# Altium footprint library PMIC.PcbLib: 19 footprints (part 1 of 2)
Each footprint in its own frame and in the unit in brackets; x right, y up, seen from the top. Pads: shape width x height; smd on the part's side, far side on the other; paste and mask are expansions set on the pad; w line width, h text height; cw(c..) or ccw(c..) is an arc to the next point about the centre after c.
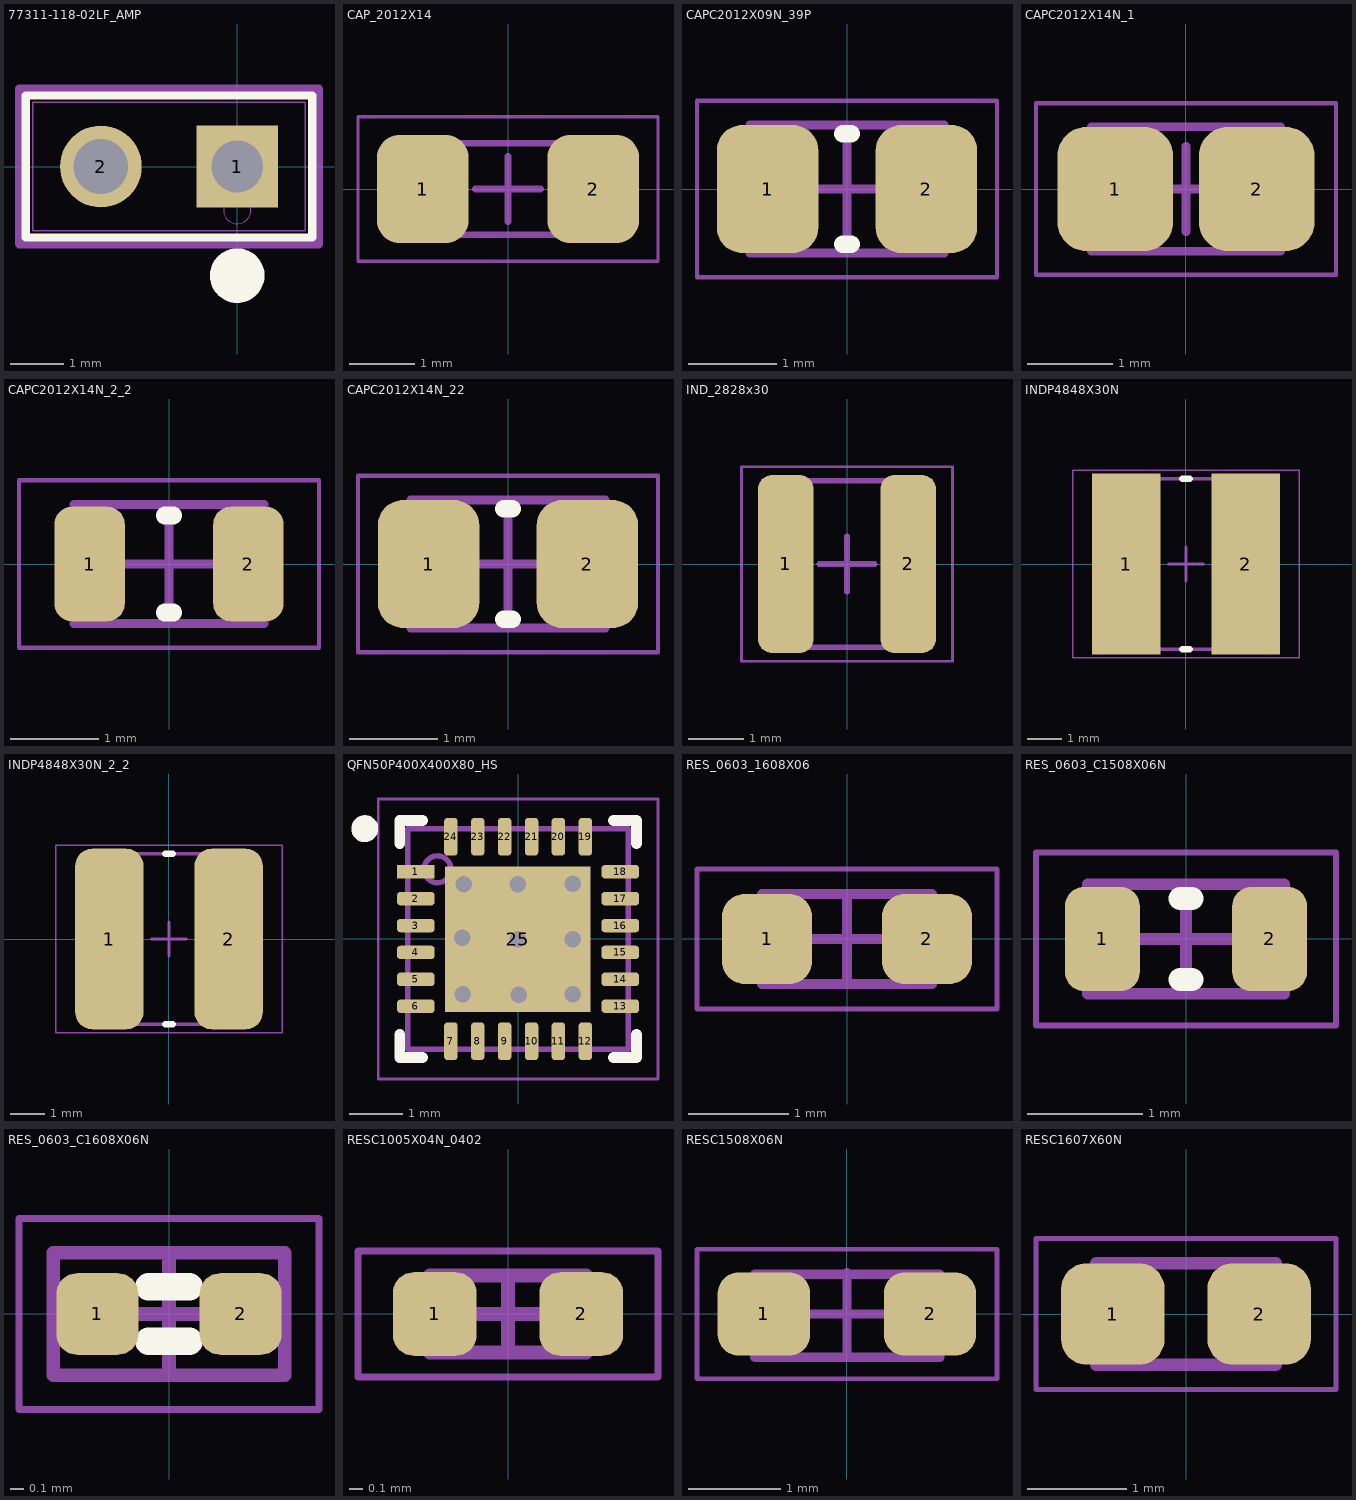
[diagram p0: the footprints below, top view; thin cyan lines are the x and y axes]

## 77311-118-02LF_AMP [mil]
pads (2):
  rect 60x60 hole 38 mask+0: 1(0,0)
  round 60 hole 40 mask+0: 2(-100,0)
Top Overlay:
  circle w20: c0,-80 r10
  lines w6: -155,-52 -155,52 55,52 55,-52 -155,-52
Mechanical 13:
  circle w0: c0,-32 r10
  lines w1: -150,-47 -150,47 50,47 50,-47 -150,-47
  text ".Designator" at -107.13,-31.03 h60
Mechanical 15:
  lines w6: -160,-57 60,-57 60,57 -160,57 -160,-57
3D body: height 10, standoff 0, extent 0,0 10,10
3D body "77311-118-02LF_AMP.step": height 350, standoff -200, extent -149.99,-49.99 50.01,50.01

## CAP_2012X14 [mm] "Chip Capacitor, 2-Leads, Body 2.00x1.25mm, IPC Medium Density"
height 1.4
pads (2):
  rrect50% 1.4x1.65 smd: 1(-1.3,0) 2(1.3,0)
Mechanical 13:
  lines w0.1: -1.075,-0.7 1.075,-0.7 1.075,0.7 -1.075,0.7 -1.075,-0.7
Mechanical 15:
  lines w0.05: -2.286,-1.1 2.286,-1.1 2.286,1.1 -2.286,1.1 -2.286,-1.1
  lines w0.1: -0.5,0 0.5,0 ; 0,-0.5 0,0.5
3D body: height 1.4, standoff 0, extent 0.625,-0.7 1.075,0.7
3D body: height 1.4, standoff 0, extent -1.075,-0.7 -0.625,0.7
3D body: height 1.4, standoff 0, extent -0.625,-0.7 0.625,0.7

## CAPC2012X09N_39P [mm] "39pF, Chip Capacitor, 2-Leads, Body 2.00x1.25mm, IPC Medium Density"
height 0.88
pads (2):
  rrect50% 1.15x1.45 smd: 1(-0.9,0) 2(0.9,0)
Top Overlay:
  lines w0.2: -0.05,-0.625 0.05,-0.625 ; -0.05,0.625 0.05,0.625
Mechanical 13:
  lines w0.1: -1.1,-0.725 -1.1,0.725 1.1,0.725 1.1,-0.725 -1.1,-0.725
  text ".Designator" at -0.8,-0.542 h0.4
Mechanical 15:
  lines w0.05: -1.7,-1 -1.7,1 1.7,1 1.7,-1 -1.7,-1
  lines w0.1: -0.5,0 0.5,0 ; 0,-0.5 0,0.5
3D body "C0805C390K3HACTU.step": height 0.88, standoff 0, extent -1.125,-0.725 1.075,0.725

## CAPC2012X14N_1 [mm] "Chip Capacitor, 2-Leads, Body 2.01x1.25mm, IPC Medium Density"
height 1.4
pads (2):
  rrect50% 1.35x1.45 smd mask+0.08: 1(-0.825,0) 2(0.825,0)
Mechanical 13:
  lines w0.1: -1.105,-0.725 -1.105,0.725 1.105,0.725 1.105,-0.725 -1.105,-0.725
  text ".Designator" at -0.814,-0.478 h0.4
Mechanical 15:
  lines w0.05: -1.75,-1 -1.75,1 1.75,1 1.75,-1 -1.75,-1
  lines w0.1: -0.5,0 0.5,0 ; 0,-0.5 0,0.5
3D body: height 1.4, standoff 0, extent -0.605,-0.725 0.605,0.725
3D body: height 1.4, standoff 0, extent -1.105,-0.725 -0.605,0.725
3D body: height 1.4, standoff 0, extent 0.605,-0.725 1.105,0.725

## CAPC2012X14N_2_2 [mm] "2.2uF, Chip Capacitor, 2-Leads, Body 2.00x1.25mm, IPC Medium Density"
height 1.35
pads (2):
  rrect50% 0.8x1.3 smd: 1(-0.9,0) 2(0.9,0)
Top Overlay:
  lines w0.2: -0.05,-0.55 0.05,-0.55 ; -0.05,0.55 0.05,0.55
Mechanical 13:
  lines w0.1: -1.075,-0.675 1.075,-0.675 1.075,0.675 -1.075,0.675 -1.075,-0.675
  text ".Designator" at -0.8,-0.517 h0.4
Mechanical 15:
  lines w0.05: -1.7,-0.95 1.7,-0.95 1.7,0.95 -1.7,0.95 -1.7,-0.95
  lines w0.1: -0.5,0 0.5,0 ; 0,-0.5 0,0.5
3D body: height 1.35, standoff 0, extent 0.575,-0.675 1.075,0.675
3D body: height 1.35, standoff 0, extent -1.075,-0.675 -0.575,0.675
3D body: height 1.35, standoff 0, extent -0.575,-0.675 0.575,0.675

## CAPC2012X14N_22 [mm] "22uF, Chip Capacitor, 2-Leads, Body 2.00x1.25mm, IPC Medium Density"
height 1.4
pads (2):
  rrect50% 1.15x1.45 smd: 1(-0.9,0) 2(0.9,0)
Top Overlay:
  lines w0.2: -0.05,-0.625 0.05,-0.625 ; -0.05,0.625 0.05,0.625
Mechanical 13:
  lines w0.1: -1.1,-0.725 -1.1,0.725 1.1,0.725 1.1,-0.725 -1.1,-0.725
  text ".Designator" at -1,-0.492 h0.4
Mechanical 15:
  lines w0.05: -1.7,-1 -1.7,1 1.7,1 1.7,-1 -1.7,-1
  lines w0.1: -0.5,0 0.5,0 ; 0,-0.5 0,0.5
3D body "C0805C226K7PACTU.step": height 1.4, standoff 0, extent -1.1,-0.7 1.1,0.75

## IND_2828x30 [mm] "Precision Wire Wound Inductor, 2-Leads, Body 2.80x2.80mm, IPC Medium Density"
height 3
pads (2):
  rrect50% 1x3.2 smd: 1(-1.1,0) 2(1.1,0)
Mechanical 13:
  lines w0.1: -1.5,-1.5 -1.5,1.5 1.5,1.5 1.5,-1.5 -1.5,-1.5
  text ".Designator" at -1.195,-0.845 h0.9
Mechanical 15:
  lines w0.05: -1.9,-1.75 -1.9,1.75 1.9,1.75 1.9,-1.75 -1.9,-1.75
  lines w0.1: -0.5,0 0.5,0 ; 0,-0.5 0,0.5
3D body "744025001_Download_STP_WE-TPC-2828_rev1.stp": height 2.8, standoff 0, extent -1.4,-1.4 1.4,1.4

## INDP4848X30N [mm] "Precision Wire Wound Inductor, 2-Leads, Body 4.80x4.80mm, IPC Medium Density"
height 3
pads (2):
  rect 2x5.3 smd: 1(-1.75,0) 2(1.75,0)
Top Overlay:
  lines w0.2: -0.1,-2.5 0.1,-2.5 ; -0.1,2.5 0.1,2.5
Mechanical 13:
  lines w0.1: -2.5,-2.5 -2.5,2.5 2.5,2.5 2.5,-2.5 -2.5,-2.5
Mechanical 15:
  lines w0.05: -3.325,-2.75 -3.325,2.75 3.325,2.75 3.325,-2.75 -3.325,-2.75
  lines w0.1: -0.5,0 0.5,0 ; 0,-0.5 0,0.5
3D body "744043003_Download_STP_WE-TPC-4828_rev1 (1).stp": height 2.4, standoff -0.4, extent -2.4,-2.4 2.4,2.4

## INDP4848X30N_2_2 [mm] "2.2uH, Precision Wire Wound Inductor, 2-Leads, Body 4.80x4.80mm, IPC Medium Density"
height 3
pads (2):
  rrect50% 2x5.3 smd: 1(-1.75,0) 2(1.75,0)
Top Overlay:
  lines w0.2: -0.1,-2.5 0.1,-2.5 ; -0.1,2.5 0.1,2.5
Mechanical 13:
  lines w0.1: -2.5,-2.5 -2.5,2.5 2.5,2.5 2.5,-2.5 -2.5,-2.5
  text ".Designator" at -1.921,-1.963 h1.52
Mechanical 15:
  lines w0.05: -3.325,-2.75 -3.325,2.75 3.325,2.75 3.325,-2.75 -3.325,-2.75
  lines w0.1: -0.5,0 0.5,0 ; 0,-0.5 0,0.5
3D body: height 3, standoff 0, extent -2.5,-2.5 2.5,2.5

## QFN50P400X400X80_HS [mm] "QFN, 24-Leads, Body 4.00x4.00mm, Pitch 0.50mm, Thermal Pad 2.70x2.70mm, IPC Medium Density"
height 0.8
pads (25):
  rect 0.7x0.25 smd mask+0.04: 1(-1.9,1.25)
  rrect50% 0.7x0.25 smd mask+0.04: 2(-1.9,0.75) 3(-1.9,0.25) 4(-1.9,-0.25) 5(-1.9,-0.75) 6(-1.9,-1.25) 13(1.9,-1.25) 14(1.9,-0.75) 15(1.9,-0.25) 16(1.9,0.25) 17(1.9,0.75) 18(1.9,1.25)
  rrect50% 0.25x0.7 smd mask+0.04: 7(-1.25,-1.9) 8(-0.75,-1.9) 9(-0.25,-1.9) 10(0.25,-1.9) 11(0.75,-1.9) 12(1.25,-1.9) 19(1.25,1.9) 20(0.75,1.9) 21(0.25,1.9) 22(-0.25,1.9) 23(-0.75,1.9) 24(-1.25,1.9)
  rect 2.7x2.7 smd paste-2 mask+0.04: 25(-0.004,-0.004)
via 1.013,1.029 diameter 0.559 hole 0.305
via -0.005,1.018 diameter 0.559 hole 0.305
via -1.009,1.014 diameter 0.559 hole 0.305
via -1.038,0.026 diameter 0.559 hole 0.305
via 1.017,-0.004 diameter 0.559 hole 0.305
via 1.017,-1.028 diameter 0.559 hole 0.305
via 0.014,-1.034 diameter 0.559 hole 0.305
via -1.028,-1.03 diameter 0.559 hole 0.305
via -0.004,-0.004 diameter 0.559 hole 0.305
Top Overlay:
  circle w0.25: c-2.85,2.05 r0.125
  lines w0.2: -2.2,-1.775 -2.2,-2.2 -1.775,-2.2 ; -2.2,1.775 -2.2,2.2 -1.775,2.2 ; 1.775,-2.2 2.2,-2.2 2.2,-1.775 ; 1.775,2.2 2.2,2.2 2.2,1.775
Top Paste:
  rectangle: 0.135,0.05 0.875,0.939
  rectangle: -0.9,0.084 -0.125,0.912
  rectangle: 0.146,-0.975 0.875,-0.043
  rectangle: -0.899,-0.95 -0.148,-0.05
Mechanical 13:
  circle w0.1: c-1.499,1.295 r0.25
  lines w0.1: -2.05,-2.05 2.05,-2.05 2.05,2.05 -2.05,2.05 -2.05,-2.05
  text ".Designator" at -1.676,-1.75 h1
Mechanical 15:
  lines w0.05: -2.6,-2.6 2.6,-2.6 2.6,2.6 -2.6,2.6 -2.6,-2.6
  lines w0.1: -0.5,0 0.5,0 ; 0,-0.5 0,0.5
3D body: height 0.8, standoff 0, extent -2.05,-2.05 2.05,2.05

## RES_0603_1608X06 [mm] "Chip Resistor, 2-Leads, Body 1.60x0.80mm, IPC Medium Density"
height 0.55
pads (2):
  rrect50% 0.9x0.9 smd: 1(-0.8,0) 2(0.8,0)
Mechanical 13:
  lines w0.1: -0.85,-0.45 -0.85,0.45 0.85,0.45 0.85,-0.45 -0.85,-0.45
  text ".Designator" at -0.635,-0.254 h0.4
Mechanical 15:
  lines w0.05: -1.5,-0.7 -1.5,0.7 1.5,0.7 1.5,-0.7 -1.5,-0.7
  lines w0.1: -0.45,0 0.45,0 ; 0,-0.45 0,0.45
3D body "0603_1608X05N.step": height 0.45, standoff 0, extent -0.775,-0.425 0.775,0.425

## RES_0603_C1508X06N [mm] "5.23k ohm, Chip Resistor, 2-Leads, Body 1.55x0.80mm, IPC Medium Density"
height 0.55
pads (2):
  rrect50% 0.65x0.9 smd: 1(-0.725,0) 2(0.725,0)
Top Overlay:
  lines w0.2: -0.05,-0.35 0.05,-0.35 ; -0.05,0.35 0.05,0.35
Mechanical 13:
  lines w0.1: -0.85,-0.475 0.85,-0.475 0.85,0.475 -0.85,0.475 -0.85,-0.475
  text ".Designator" at -0.65,-0.267 h0.4
Mechanical 15:
  lines w0.05: -1.3,-0.75 1.3,-0.75 1.3,0.75 -1.3,0.75 -1.3,-0.75
  lines w0.1: -0.475,0 0.475,0 ; 0,-0.475 0,0.475
3D body "RMCF0603.stp": height 0.44, standoff -0.01, extent -0.775,-0.396 0.775,0.404

## RES_0603_C1608X06N [mm] "100k ohm, Chip Resistor, 2-Leads, Body 1.60x0.80mm, IPC Medium Density"
height 0.55
pads (2):
  rrect50% 0.6x0.6 smd: 1(-0.525,0) 2(0.525,0)
Top Overlay:
  lines w0.2: -0.15,-0.2 0.15,-0.2 ; -0.15,0.2 0.15,0.2
Mechanical 13:
  lines w0.1: -0.85,-0.45 0.85,-0.45 0.85,0.45 -0.85,0.45 -0.85,-0.45
  text ".Designator" at -0.56,-0.3 h0.4
Mechanical 15:
  lines w0.05: -1.1,-0.7 1.1,-0.7 1.1,0.7 -1.1,0.7 -1.1,-0.7
  lines w0.1: -0.45,0 0.45,0 ; 0,-0.45 0,0.45
3D body "RES_0603_C1608X06N.step": height 0.55, standoff 0, extent -0.85,-0.45 0.85,0.45

## RESC1005X04N_0402 [mm] "1 ohm, Chip Resistor, 2-Leads, Body 1.00x0.50mm, IPC Medium Density"
height 0.4
pads (2):
  rrect50% 0.6x0.6 smd: 1(-0.525,0) 2(0.525,0)
Mechanical 13:
  lines w0.1: -0.559,-0.275 0.559,-0.275 0.559,0.275 -0.559,0.275 -0.559,-0.275
  text ".Designator" at -0.286,-0.186 h0.3
Mechanical 15:
  lines w0.05: -1.075,-0.45 1.075,-0.45 1.075,0.45 -1.075,0.45 -1.075,-0.45
  lines w0.1: -0.275,0 0.275,0 ; 0,-0.275 0,0.275
3D body "RESC1005X04N_0402.step": height 0.4, standoff 0, extent -0.475,-0.275 0.475,0.275

## RESC1508X06N [mm] "2k ohm, Chip Resistor, 2-Leads, Body 1.55x0.80mm, IPC Medium Density"
height 0.55
pads (2):
  rrect50% 1x0.9 smd: 1(-0.9,0) 2(0.9,0)
Mechanical 13:
  lines w0.1: 1,-0.468 -1,-0.468 -1,0.432 1,0.432 ; 1.006,-0.468 1.006,0.432
  text ".Designator" at -0.687,-0.3 h0.4
Mechanical 15:
  lines w0.05: -1.624,-0.7 -1.624,0.7 1.626,0.7 1.626,-0.7 -1.624,-0.7
  lines w0.1: -0.45,0 0.45,0 ; 0,-0.45 0,0.45
3D body "RESC1508X06N.step": height 0.55, standoff 0, extent -0.825,-0.45 0.825,0.45

## RESC1607X60N [mm]
pads (2):
  rrect50% 1.04x1.02 smd: 1(-0.735,0) 2(0.735,0)
Mechanical 13:
  lines w0.127: -0.9,-0.51 -0.9,0.51 0.9,0.51 0.9,-0.51 -0.9,-0.51
  text ".Designator" at -0.611,-0.351 h0.4
Mechanical 15:
  lines w0.05: -1.508,-0.761 -1.508,0.761 1.508,0.761 1.508,-0.761 -1.508,-0.761
3D body "RESC1508X06N.step": height 0.55, standoff 0, extent -0.825,-0.45 0.825,0.45